# EAGLE library part PLAYSTATION_JOYSTICK (library usevolt)
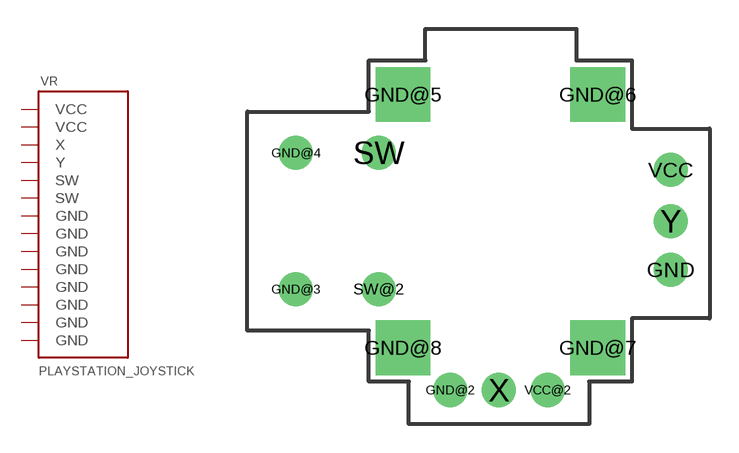
[diagram p22: symbol with the pads of PLAYSTATION_JOYSTICK; footprint PLAYSTATION_JOYSTICK]

Designator prefix VR

## PLAYSTATION_JOYSTICK  [PLAYSTATION_JOYSTICK]
GND  GND
GND@2  GND
GND@3  GND
GND@4  GND
GND@5  GND
GND@6  GND
GND@7  GND
GND@8  GND
SW  SW
SW@2  SW
VCC  VCC
VCC@2  VCC
X  X
Y  Y

## Footprint PLAYSTATION_JOYSTICK (pad centres in mm)
drill 1.016 pad 1.778: GND 9.398,-2.794; GND@2 -2.108,-9.068; GND@3 -10.16,-3.81; GND@4 -10.16,3.302; SW -5.842,3.302; SW@2 -5.842,-3.81; VCC 9.398,2.413; VCC@2 2.972,-9.068; X 0.432,-9.068; Y 9.398,-0.254
drill 1.905 square: GND@5 -4.572,6.35; GND@6 5.588,6.35; GND@7 5.588,-6.858; GND@8 -4.572,-6.858